# EAGLE library part WE-TVS-SS_DFN1210-6L_824012823 (library Eagle_WE-TVS (rev22a))
WE-TVS TVS Diode – Super Speed Series Characteristics Fast turn-on Low clamping voltage Very low capacitance Rail to Rail protection Small package Epoxy flame resistant UL94-V0 Applications Super Speed data lines HDMI 1.3/1.4/2.0, DVI DisplayPort USB 3.1 Gen 1 (5Gb/s) SATA and eSATA GBit LAN Thunderbolt LVDS ESD protection in accordance with EN 61000-4-2 – 8 kV contact discharge – 15 kV air discharge SS = Super Speed <https://www.we-online.com/catalog/media/o106434v209%20Family_WE-TVS-SuperSpeed.jpg> Details see: https://www.we-online.com/catalog/en/WE-TVS-SS Updated by Ella Wu 2019-07-12 2019 (C) Wurth Elektronik
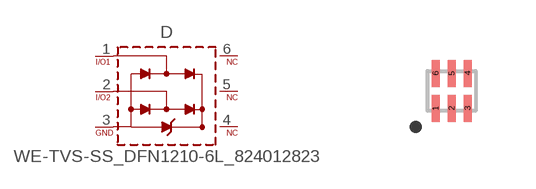
[diagram p0: symbol with the pads of WE-TVS_DFN1210-6L; footprint WE-TVS_DFN1210-6L]

Designator prefix D

## WE-TVS-SS_DFN1210-6L_824012823 (C-CH: 0.18pF; CHANNELS: 2; DATASHEET-URL: https://www.we-online.com/catalog/datasheet/824012823.pdf; IPEAK: 3A; MOUNT: SMT; PART-NUMBER: 824012823; VALUE: 3.3Vdc; VBR: 4.5V)  [WE-TVS_DFN1210-6L]
1  I/O1  pas
2  I/O2  pas
3  GND  pas
4  NC  pas
5  NC1  pas
6  NC2  pas

## Footprint WE-TVS_DFN1210-6L (pad centres in mm)
WE-TVS TVS Diode Size: DFN1210-6L L X W X H = 1.2mm X 1.0mm X 0.45mm
smd 0.2 x 0.675: 1 -0.4,-0.438; 2 0,-0.438; 3 0.4,-0.438; 4 0.4,0.438; 5 0,0.438; 6 -0.4,0.438